# Altium integrated library Cypress USB High-Speed.IntLib: 35 symbols (part 2 of 2)
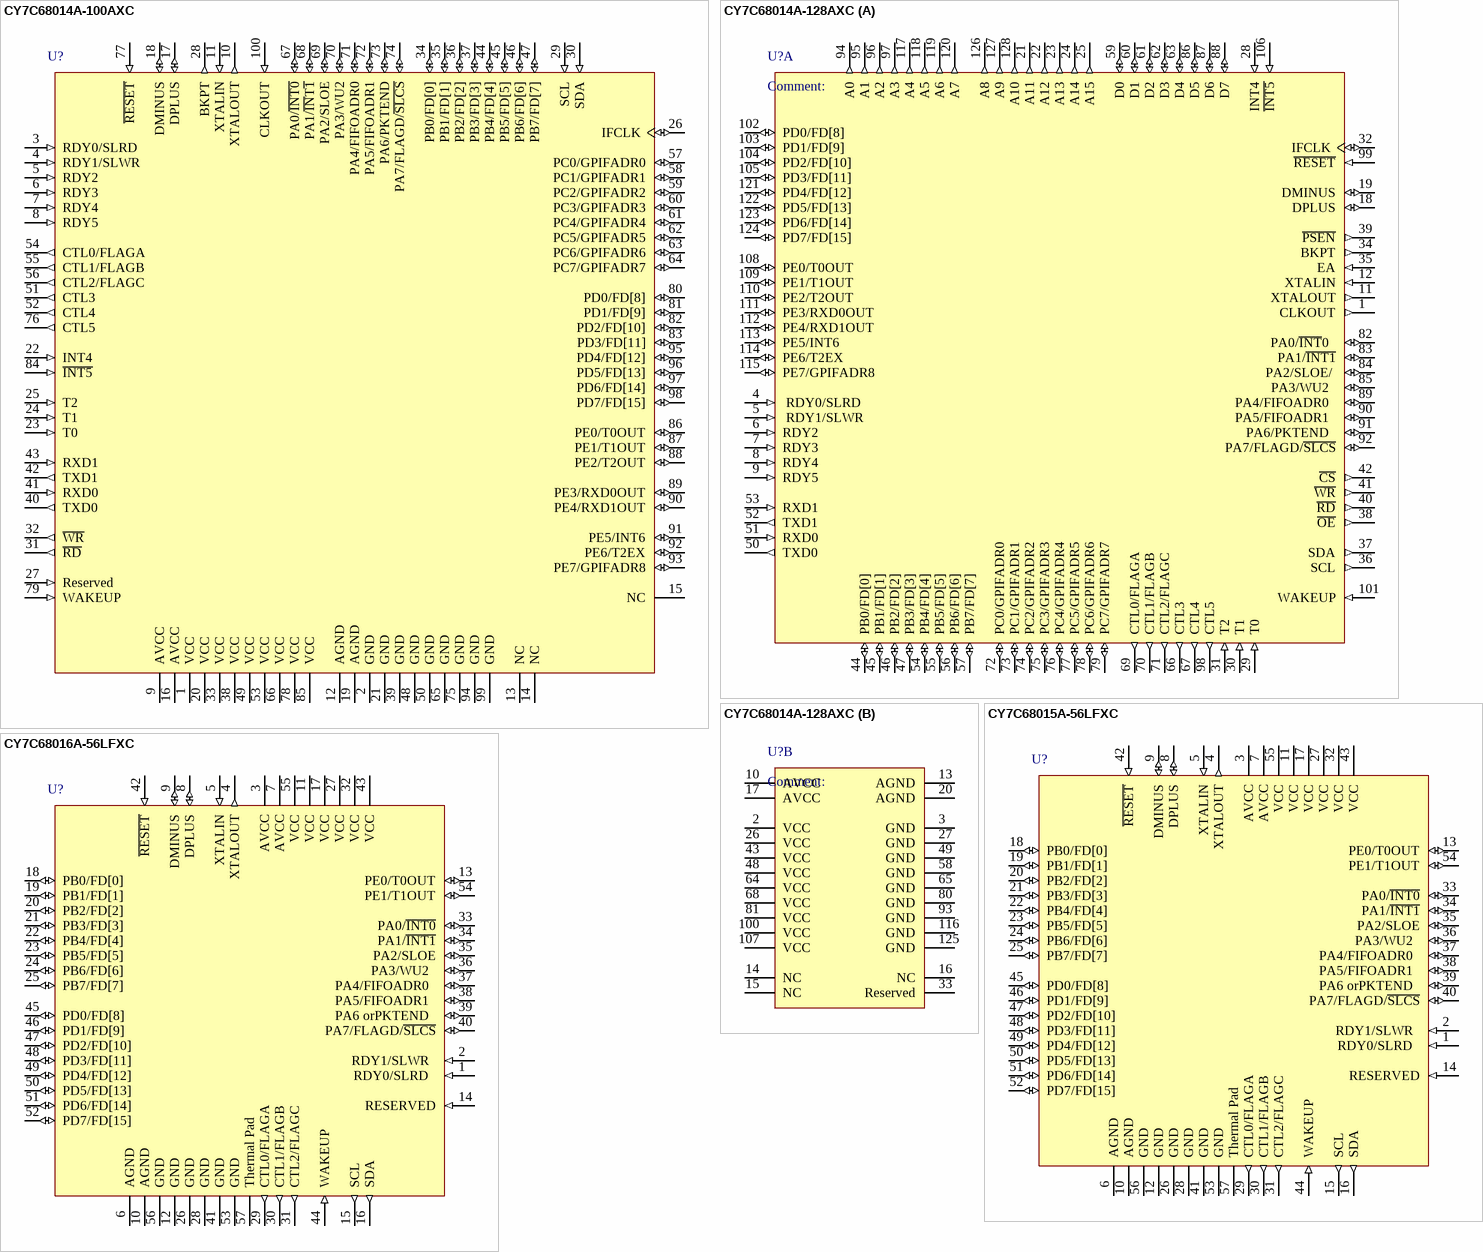
[diagram p7: symbols CY7C68014A-100AXC to CY7C68016A-56LFXC]

## CY7C68014A-128AXC
designator U?
EZ-USB FX2LP USB Microcontroller Ideal for Battery Powered Applications,16K RAM, 40 I/Os, 128-Pin TQFP, Pb-Free, Commercial Grade; Published: 16-Dec-2005; LatestRevisionDate: 13-Apr-2006; LatestRevisionNote: IPC-7351 Footprint Added.; DatasheetVersion: rev.J, Sep-2005; PackageVersion: Rev. *C, 19-Dec-2002; PackageReference: A128; Publisher: Altium Limited; PackageDescription: 128-Pin Thin Quad Flat Pack Rectangular 0.5 mm Pitch; ComponentLink1Description: Manufacturer Link; ComponentLink1URL: http://www.cypress.com/portal/server.pt; ComponentLink2Description: Datasheet; ComponentLink2URL: http://www.cypress.com/portal/server.pt/gateway/PTARGS_0_2_1524_209_259_43/http%3B/sjapp20.mis.cypress.com%3B7001/publishedcontent/publish/design_resources/datasheets/contents/cy7c68014a_5.pdf
footprint A128_N (Thin QFP, 128-Leads, Body 20x14 mm, Pitch 0.5mm, IPC Medium Density)
footprint A128_L (Thin QFP, 128-Leads, Body 20x14 mm, Pitch 0.5mm, IPC High Density)
footprint A128_M (Thin QFP, 128-Leads, Body 20x14 mm, Pitch 0.5mm, IPC Low Density)
part A pins: 1 CLKOUT (out), 4  RDY0/SLRD   (in), 5  RDY1/SLWR   (in), 6 RDY2 (in), 7 RDY3 (in), 8 RDY4 (in), 9 RDY5 (in), 11 XTALOUT (out), 12 XTALIN (in), 18 DPLUS (io), 19 DMINUS (io), 21 A11 (out), 22 A12 (out), 23 A13 (out), 24 A14 (out), 25 A15 (out), 28 INT4 (in), 29 T0 (in), 30 T1 (in), 31 T2 (in), 32  IFCLK (io), 34 BKPT (out), 35 EA (in), 36 SCL (out), 37 SDA (out), 38 ~{OE} (out), 39 ~{PSEN} (out), 40 ~{RD} (out), 41 ~{WR} (out), 42 ~{CS} (out), 44 PB0/FD[0]   (io), 45 PB1/FD[1]   (io), 46 PB2/FD[2]   (io), 47 PB3/FD[3]   (io), 50 TXD0 (out), 51 RXD0 (in), 52 TXD1 (out), 53 RXD1 (in), 54 PB4/FD[4]   (io), 55 PB5/FD[5]   (io), 56 PB6/FD[6]   (io), 57 PB7/FD[7]   (io), 59 D0 (io), 60 D1 (io), 61 D2 (io), 62 D3 (io), 63 D4 (io), 66 CTL3 (out), 67 CTL4 (out), 69 CTL0/FLAGA   (out), 70 CTL1/FLAGB   (out), 71 CTL2/FLAGC   (out), 72 PC0/GPIFADR0   (io), 73 PC1/GPIFADR1   (io), 74 PC2/GPIFADR2   (io), 75 PC3/GPIFADR3   (io), 76 PC4/GPIFADR4   (io), 77 PC5/GPIFADR5   (io), 78 PC6/GPIFADR6   (io), 79 PC7/GPIFADR7   (io), 82 PA0/~{INT}0   (io), 83 PA1/~{INT1} (io), 84 PA2/SLOE/  (io), 85 PA3/WU2   (io), 86 D5 (io), 87 D6 (io), 88 D7 (io), 89 PA4/FIFOADR0   (io), 90 PA5/FIFOADR1   (io), 91 PA6/PKTEND   (io), 92 PA7/FLAGD/~{SLCS} (io), 94 A0 (out), 95 A1 (out), 96 A2 (out), 97 A3 (out), 98 CTL5 (out), 99 ~{RESET} (in), 101 WAKEUP (in), 102 PD0/FD[8]   (io), 103 PD1/FD[9]   (io), 104 PD2/FD[10]   (io), 105 PD3/FD[11]   (io), 106 ~{INT5} (in), 108 PE0/T0OUT   (io), 109 PE1/T1OUT   (io), 110 PE2/T2OUT   (io), 111 PE3/RXD0OUT   (io), 112 PE4/RXD1OUT   (io), 113 PE5/INT6   (io), 114 PE6/T2EX   (io), 115 PE7/GPIFADR8   (io), 117 A4 (out), 118 A5 (out), 119 A6 (out), 120 A7 (out), 121 PD4/FD[12]   (io), 122 PD5/FD[13]   (io), 123 PD6/FD[14]   (io), 124 PD7/FD[15]   (io), 126 A8 (out), 127 A9 (out), 128 A10 (out)
part B pins: 2 VCC (power), 3 GND (power), 10 AVCC (power), 13 AGND (power), 14 NC, 15 NC, 16 NC, 17 AVCC (power), 20 AGND (power), 26 VCC (power), 27 GND (power), 33 Reserved (power), 43 VCC (power), 48 VCC (power), 49 GND (power), 58 GND (power), 64 VCC (power), 65 GND (power), 68 VCC (power), 80 GND (power), 81 VCC (power), 93 GND (power), 100 VCC (power), 107 VCC (power), 116 GND (power), 125 GND (power)

## CY7C68015A-56LFXC
designator U?
EZ-USB FX2LP USB Microcontroller Ideal for Non-Battery Powered Applications,16K RAM, 26 I/Os, 56-Pin QFN, Pb-Free, Commercial Grade; Published: 16-Dec-2005; LatestRevisionDate: 13-Apr-2006; LatestRevisionNote: IPC-7351 Footprint Added.; DatasheetVersion: rev.J, Sep-2005; PackageVersion: May-2003; PackageReference: LF56A; Publisher: Altium Limited; PackageDescription: 56-Pin Punch Version Quad Flat No-Lead 0.5 mm Pitch; Code_JEDEC: MO-220; ComponentLink1Description: Manufacturer Link; ComponentLink1URL: http://www.cypress.com/portal/server.pt; ComponentLink2Description: Datasheet; ComponentLink2URL: http://www.cypress.com/portal/server.pt/gateway/PTARGS_0_2_1524_209_259_43/http%3B/sjapp20.mis.cypress.com%3B7001/publishedcontent/publish/design_resources/datasheets/contents/cy7c68015a_5.pdf
footprint LF56A_N (QFN, 56-Leads, Body 8x8mm, Pitch 0.5mm, IPC Medium Density)
footprint LF56A_L (QFN, 56-Leads, Body 8x8mm, Pitch 0.5mm, IPC High Density)
footprint LF56A_M (QFN, 56-Leads, Body 8x8mm, Pitch 0.5mm, IPC Low Density)
pins: 1  RDY0/SLRD   (in), 2  RDY1/SLWR   (in), 3 AVCC (power), 4 XTALOUT (out), 5 XTALIN (in), 6 AGND (power), 7 AVCC (power), 8 DPLUS (io), 9 DMINUS (io), 10 AGND (power), 11 VCC (power), 12 GND (power), 13 PE0/T0OUT (io), 14 RESERVED (in), 15 SCL (out), 16 SDA (out), 17 VCC (power), 18 PB0/FD[0]   (io) "Port B", 19 PB1/FD[1]   (io) "Port B", 20 PB2/FD[2]   (io) "Port B", 21 PB3/FD[3]   (io) "Port B", 22 PB4/FD[4]   (io) "Port B", 23 PB5/FD[5]   (io) "Port B", 24 PB6/FD[6]   (io) "Port B", 25 PB7/FD[7]   (io) "Port B", 26 GND (power), 27 VCC (power), 28 GND (power), 29 CTL0/FLAGA   (out), 30 CTL1/FLAGB   (out), 31 CTL2/FLAGC   (out), 32 VCC (power), 33 PA0/~{INT0} (io) "Port A", 34 PA1/~{INT1} (io) "Port A", 35 PA2/SLOE (io) "Port A", 36 PA3/WU2   (io) "Port A", 37 PA4/FIFOADR0   (io) "Port A", 38 PA5/FIFOADR1   (io) "Port A", 39 PA6 orPKTEND   (io) "Port A", 40 PA7/FLAGD/~{SLCS} (io) "Port A", 41 GND (power), 42 ~{RESET} (in), 43 VCC (power), 44 WAKEUP (in), 45 PD0/FD[8]   (io) "Port D", 46 PD1/FD[9]   (io) "Port D", 47 PD2/FD[10]   (io) "Port D", 48 PD3/FD[11]   (io) "Port D", 49 PD4/FD[12]   (io) "Port D", 50 PD5/FD[13]   (io) "Port D", 51 PD6/FD[14]   (io) "Port D", 52 PD7/FD[15]   (io) "Port D", 53 GND (power), 54 PE1/T1OUT (io), 55 VCC (power), 56 GND (power), 57 Thermal Pad (power)

## CY7C68016A-56LFXC
designator U?
EZ-USB FX2LP USB Microcontroller Ideal for Battery Powered Applications,16K RAM, 26 I/Os, 56-Pin QFN, Pb-Free, Commercial Grade; Published: 16-Dec-2005; LatestRevisionDate: 13-Apr-2006; LatestRevisionNote: IPC-7351 Footprint Added.; DatasheetVersion: rev.J, Sep-2005; PackageVersion: May-2003; PackageReference: LF56A; Publisher: Altium Limited; PackageDescription: 56-Pin Punch Version Quad Flat No-Lead 0.5 mm Pitch; Code_JEDEC: MO-220; ComponentLink1Description: Manufacturer Link; ComponentLink1URL: http://www.cypress.com/portal/server.pt; ComponentLink2Description: Datasheet; ComponentLink2URL: http://www.cypress.com/portal/server.pt/gateway/PTARGS_0_2_1524_209_259_43/http%3B/sjapp20.mis.cypress.com%3B7001/publishedcontent/publish/design_resources/datasheets/contents/cy7c68016a_5.pdf
footprint LF56A_N (QFN, 56-Leads, Body 8x8mm, Pitch 0.5mm, IPC Medium Density)
footprint LF56A_L (QFN, 56-Leads, Body 8x8mm, Pitch 0.5mm, IPC High Density)
footprint LF56A_M (QFN, 56-Leads, Body 8x8mm, Pitch 0.5mm, IPC Low Density)
pins: 1  RDY0/SLRD   (in), 2  RDY1/SLWR   (in), 3 AVCC (power), 4 XTALOUT (out), 5 XTALIN (in), 6 AGND (power), 7 AVCC (power), 8 DPLUS (io), 9 DMINUS (io), 10 AGND (power), 11 VCC (power), 12 GND (power), 13 PE0/T0OUT (io), 14 RESERVED (in), 15 SCL (out), 16 SDA (out), 17 VCC (power), 18 PB0/FD[0]   (io) "Port B", 19 PB1/FD[1]   (io) "Port B", 20 PB2/FD[2]   (io) "Port B", 21 PB3/FD[3]   (io) "Port B", 22 PB4/FD[4]   (io) "Port B", 23 PB5/FD[5]   (io) "Port B", 24 PB6/FD[6]   (io) "Port B", 25 PB7/FD[7]   (io) "Port B", 26 GND (power), 27 VCC (power), 28 GND (power), 29 CTL0/FLAGA   (out), 30 CTL1/FLAGB   (out), 31 CTL2/FLAGC   (out), 32 VCC (power), 33 PA0/~{INT0} (io) "Port A", 34 PA1/~{INT1} (io) "Port A", 35 PA2/SLOE (io) "Port A", 36 PA3/WU2   (io) "Port A", 37 PA4/FIFOADR0   (io) "Port A", 38 PA5/FIFOADR1   (io) "Port A", 39 PA6 orPKTEND   (io) "Port A", 40 PA7/FLAGD/~{SLCS} (io) "Port A", 41 GND (power), 42 ~{RESET} (in), 43 VCC (power), 44 WAKEUP (in), 45 PD0/FD[8]   (io) "Port D", 46 PD1/FD[9]   (io) "Port D", 47 PD2/FD[10]   (io) "Port D", 48 PD3/FD[11]   (io) "Port D", 49 PD4/FD[12]   (io) "Port D", 50 PD5/FD[13]   (io) "Port D", 51 PD6/FD[14]   (io) "Port D", 52 PD7/FD[15]   (io) "Port D", 53 GND (power), 54 PE1/T1OUT (io), 55 VCC (power), 56 GND (power), 57 Thermal Pad (power)

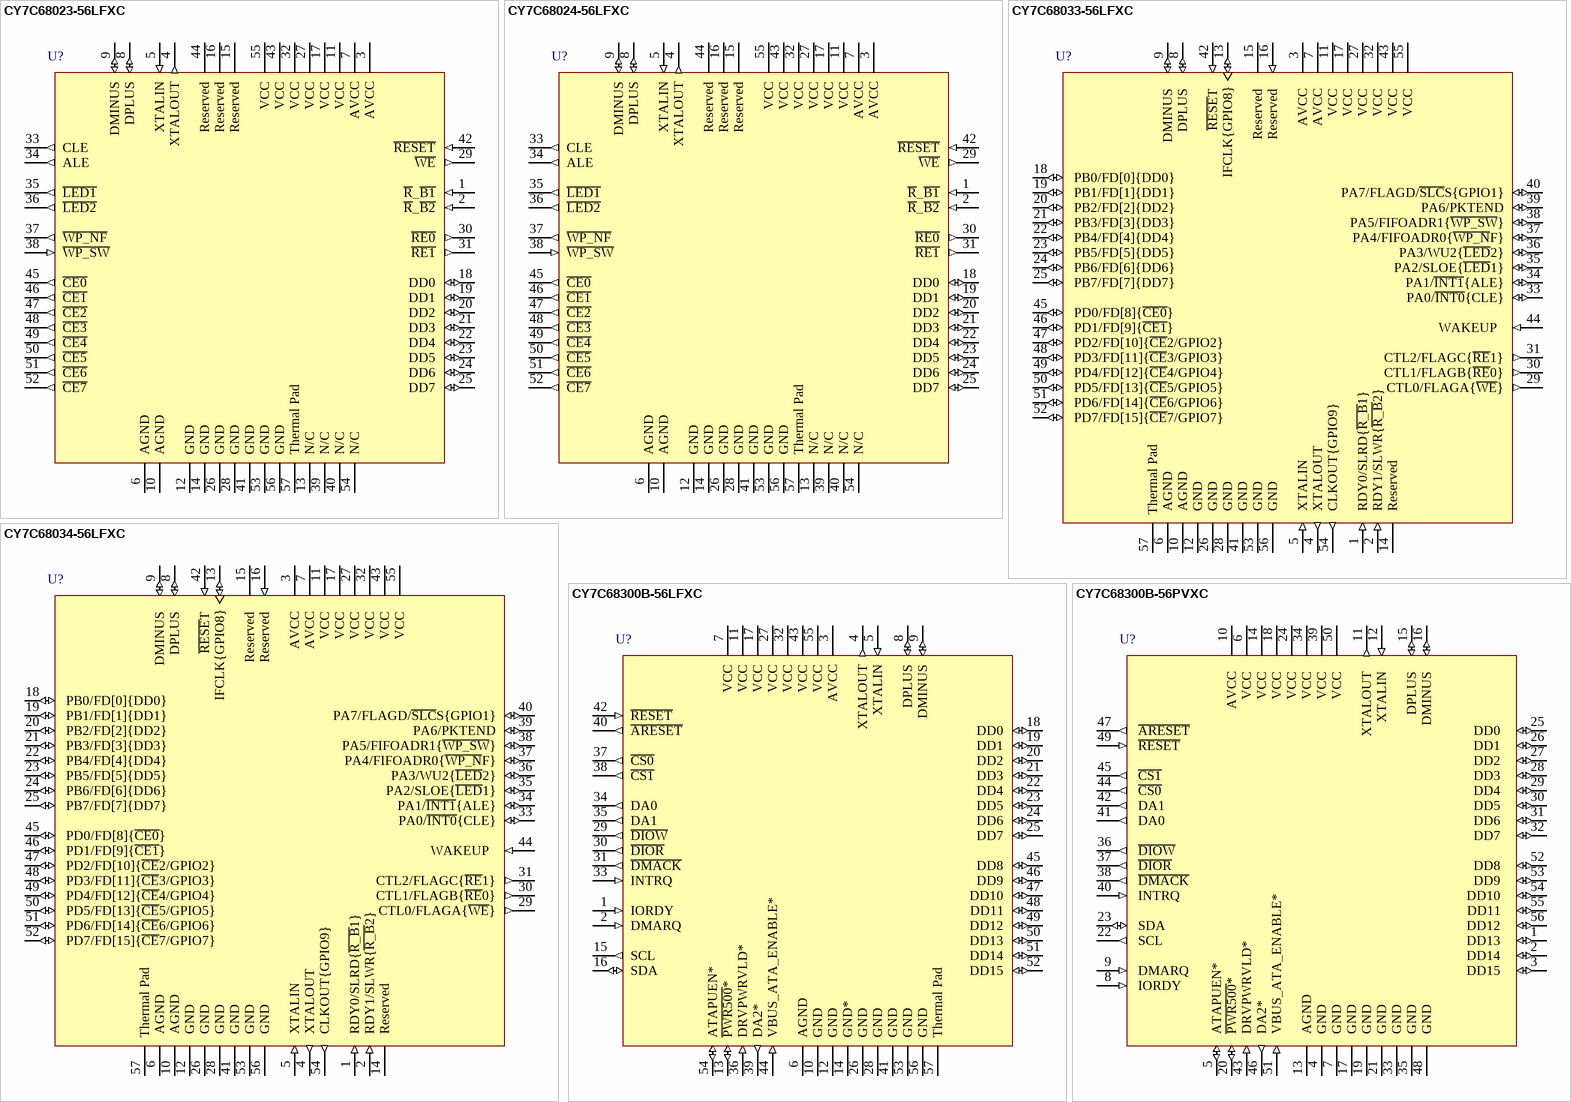
[diagram p4: symbols CY7C68023-56LFXC to CY7C68300B-56PVXC]

## CY7C68023-56LFXC
designator U?
EZ-USB NX2LP USB 2.0 NAND Flash Controller for Self/ Bus Power, 56 - pin QFN, Pb-Free; Published: 16-Dec-2005; LatestRevisionDate: 13-Apr-2006; LatestRevisionNote: IPC-7351 Footprint Added.; DatasheetVersion: rev.B, Oct-2005; PackageVersion: May-2003; PackageReference: LF56A; Publisher: Altium Limited; PackageDescription: 56-Pin Punch Version Quad Flat No-Lead 0.5 mm Pitch; Code_JEDEC: MO-220; ComponentLink1Description: Manufacturer Link; ComponentLink1URL: http://www.cypress.com/portal/server.pt; ComponentLink2Description: Datasheet; ComponentLink2URL: http://www.cypress.com/portal/server.pt/gateway/PTARGS_0_2_1524_209_259_43/http%3B/sjapp20.mis.cypress.com%3B7001/publishedcontent/publish/design_resources/datasheets/contents/cy7c68023_5.pdf
footprint LF56A_N (QFN, 56-Leads, Body 8x8mm, Pitch 0.5mm, IPC Medium Density)
footprint LF56A_L (QFN, 56-Leads, Body 8x8mm, Pitch 0.5mm, IPC High Density)
footprint LF56A_M (QFN, 56-Leads, Body 8x8mm, Pitch 0.5mm, IPC Low Density)
pins: 1 ~{R}_~{B1} (in), 2 ~{R}_~{B2} (in), 3 AVCC (power), 4 XTALOUT (out), 5 XTALIN (in), 6 AGND (power), 7 AVCC (power), 8 DPLUS (io), 9 DMINUS (io), 10 AGND (power), 11 VCC (power), 12 GND (power), 13 N/C, 14 GND (power), 15 Reserved (power), 16 Reserved (power), 17 VCC (power), 18 DD0 (io), 19 DD1 (io), 20 DD2 (io), 21 DD3 (io), 22 DD4 (io), 23 DD5 (io), 24 DD6 (io), 25 DD7 (io), 26 GND (power), 27 VCC (power), 28 GND (power), 29 ~{WE} (out), 30 ~{RE0} (out), 31 ~{RE1} (out), 32 VCC (power), 33 CLE (out), 34 ALE (out), 35 ~{LED1} (out), 36 ~{LED2} (out), 37 ~{WP_NF} (out), 38 ~{WP_SW} (in), 39 N/C, 40 N/C, 41 GND (power), 42 ~{RESET} (in), 43 VCC (power), 44 Reserved (power), 45 ~{CE0} (out), 46 ~{CE1} (out), 47 ~{CE2} (out), 48 ~{CE3} (out), 49 ~{CE4} (out), 50 ~{CE5} (out), 51 ~{CE6} (out), 52 ~{CE7} (out), 53 GND (power), 54 N/C, 55 VCC (power), 56 GND (power), 57 Thermal Pad (power)

## CY7C68024-56LFXC
designator U?
EZ-USB NX2LP USB 2.0 NAND Flash Controller for Battery Power, 56 - pin QFN, Pb-Free; Published: 16-Dec-2005; LatestRevisionDate: 13-Apr-2006; LatestRevisionNote: IPC-7351 Footprint Added.; DatasheetVersion: rev.B, Oct-2005; PackageVersion: May-2003; PackageReference: LF56A; Publisher: Altium Limited; PackageDescription: 56-Pin Punch Version Quad Flat No-Lead 0.5 mm Pitch; Code_JEDEC: MO-220; ComponentLink1Description: Manufacturer Link; ComponentLink1URL: http://www.cypress.com/portal/server.pt; ComponentLink2Description: Datasheet; ComponentLink2URL: http://www.cypress.com/portal/server.pt/gateway/PTARGS_0_2_1524_209_259_43/http%3B/sjapp20.mis.cypress.com%3B7001/publishedcontent/publish/design_resources/datasheets/contents/cy7c68024_5.pdf
footprint LF56A_N (QFN, 56-Leads, Body 8x8mm, Pitch 0.5mm, IPC Medium Density)
footprint LF56A_L (QFN, 56-Leads, Body 8x8mm, Pitch 0.5mm, IPC High Density)
footprint LF56A_M (QFN, 56-Leads, Body 8x8mm, Pitch 0.5mm, IPC Low Density)
pins: 1 ~{R}_~{B1} (in), 2 ~{R}_~{B2} (in), 3 AVCC (power), 4 XTALOUT (out), 5 XTALIN (in), 6 AGND (power), 7 AVCC (power), 8 DPLUS (io), 9 DMINUS (io), 10 AGND (power), 11 VCC (power), 12 GND (power), 13 N/C, 14 GND (power), 15 Reserved (power), 16 Reserved (power), 17 VCC (power), 18 DD0 (io), 19 DD1 (io), 20 DD2 (io), 21 DD3 (io), 22 DD4 (io), 23 DD5 (io), 24 DD6 (io), 25 DD7 (io), 26 GND (power), 27 VCC (power), 28 GND (power), 29 ~{WE} (out), 30 ~{RE0} (out), 31 ~{RE1} (out), 32 VCC (power), 33 CLE (out), 34 ALE (out), 35 ~{LED1} (out), 36 ~{LED2} (out), 37 ~{WP_NF} (out), 38 ~{WP_SW} (in), 39 N/C, 40 N/C, 41 GND (power), 42 ~{RESET} (in), 43 VCC (power), 44 Reserved (power), 45 ~{CE0} (out), 46 ~{CE1} (out), 47 ~{CE2} (out), 48 ~{CE3} (out), 49 ~{CE4} (out), 50 ~{CE5} (out), 51 ~{CE6} (out), 52 ~{CE7} (out), 53 GND (power), 54 N/C, 55 VCC (power), 56 GND (power), 57 Thermal Pad (power)

## CY7C68033-56LFXC
designator U?
EZ-USB NX2LP-Flex USB NAND Flash Controller with enhanced 8051 Core for Non-Battery Powered Applications, 15KB RAM, 56-Pin QFN, Pb-Free; Note: Pins Names within Curly Brackets are for NAND Firmware Usage; Published: 16-Dec-2005; LatestRevisionDate: 13-Apr-2006; LatestRevisionNote: IPC-7351 Footprint Added.; DatasheetVersion: rev.B, Oct-2005; PackageVersion: May-2003; PackageReference: LF56A; Publisher: Altium Limited; PackageDescription: 56-Pin Punch Version Quad Flat No-Lead 0.5 mm Pitch; Code_JEDEC: MO-220; ComponentLink1Description: Manufacturer Link; ComponentLink1URL: http://www.cypress.com/portal/server.pt; ComponentLink2Description: Datasheet; ComponentLink2URL: http://www.cypress.com/portal/server.pt/gateway/PTARGS_0_2_1524_209_259_43/http%3B/sjapp20.mis.cypress.com%3B7001/publishedcontent/publish/design_resources/datasheets/contents/cy7c68033_5.pdf
footprint LF56A_N (QFN, 56-Leads, Body 8x8mm, Pitch 0.5mm, IPC Medium Density)
footprint LF56A_L (QFN, 56-Leads, Body 8x8mm, Pitch 0.5mm, IPC High Density)
footprint LF56A_M (QFN, 56-Leads, Body 8x8mm, Pitch 0.5mm, IPC Low Density)
pins: 1  RDY0/SLRD{~{R_B}1} (in), 2  RDY1/SLWR{~{R_B}2} (in), 3  AVCC   (power), 4  XTALOUT   (out), 5  XTALIN   (in), 6  AGND   (power), 7  AVCC   (power), 8  DPLUS   (io), 9  DMINUS   (io), 10  AGND   (power), 11  VCC   (power), 12  GND   (power), 13  IFCLK{GPIO8} (io), 14  Reserved (power), 15  Reserved   (power), 16  Reserved   (in), 17  VCC   (power), 18  PB0/FD[0]{DD0} (io) "Port B", 19  PB1/FD[1]{DD1} (io) "Port B", 20  PB2/FD[2]{DD2} (io) "Port B", 21  PB3/FD[3]{DD3} (io) "Port B", 22  PB4/FD[4]{DD4} (io) "Port B", 23  PB5/FD[5]{DD5} (io) "Port B", 24  PB6/FD[6]{DD6} (io) "Port B", 25  PB7/FD[7]{DD7} (io) "Port B", 26  GND   (power), 27  VCC   (power), 28  GND   (power), 29  CTL0/FLAGA{~{WE}} (out), 30  CTL1/FLAGB{~{RE}0} (out), 31  CTL2/FLAGC{~{RE}1} (out), 32  VCC   (power), 33  PA0/~{INT0}{CLE} (io) "Port A", 34  PA1/~{INT1}{ALE} (io) "Port A", 35  PA2/SLOE{~{LED}1} (io) "Port A", 36  PA3/WU2{~{LED}2} (io) "Port A", 37  PA4/FIFOADR0{~{WP_N}F} (io) "Port A", 38  PA5/FIFOADR1{~{WP_SW}} (io) "Port A", 39  PA6/PKTEND (io) "Port A", 40  PA7/FLAGD/~{SLC}S{GPIO1} (io) "Port A", 41  GND   (power), 42  ~{RESE}T   (in), 43  VCC   (power), 44  WAKEUP   (in) "Port A", 45  PD0/FD[8]{~{CE0}} (io) "Port D", 46  PD1/FD[9]{~{CE1}} (io) "Port D", 47  PD2/FD[10]{~{CE}2/GPIO2} (io) "Port D", 48  PD3/FD[11]{~{CE}3/GPIO3} (io) "Port D", 49  PD4/FD[12]{~{CE}4/GPIO4} (io) "Port D", 50  PD5/FD[13]{~{CE}5/GPIO5} (io) "Port D", 51  PD6/FD[14]{~{CE}6/GPIO6} (io) "Port D", 52  PD7/FD[15]{~{CE}7/GPIO7} (io) "Port D", 53  GND   (power), 54  CLKOUT{GPIO9} (out), 55  VCC   (power), 56  GND   (power), 57 Thermal Pad (power)

## CY7C68034-56LFXC
designator U?
EZ-USB NX2LP-Flex USB NAND Flash Controller with enhanced 8051 Core for Battery Powered Applications, 15KB RAM, 56-Pin QFN, Pb-Free; Note: Pins Names within Curly Brackets are for NAND Firmware Usage; Published: 16-Dec-2005; LatestRevisionDate: 13-Apr-2006; LatestRevisionNote: IPC-7351 Footprint Added.; DatasheetVersion: rev.B, Oct-2005; PackageVersion: May-2003; PackageReference: LF56A; Publisher: Altium Limited; PackageDescription: 56-Pin Punch Version Quad Flat No-Lead 0.5 mm Pitch; Code_JEDEC: MO-220; ComponentLink1Description: Manufacturer Link; ComponentLink1URL: http://www.cypress.com/portal/server.pt; ComponentLink2Description: Datasheet; ComponentLink2URL: http://www.cypress.com/portal/server.pt/gateway/PTARGS_0_2_1524_209_259_43/http%3B/sjapp20.mis.cypress.com%3B7001/publishedcontent/publish/design_resources/datasheets/contents/cy7c68034_5.pdf
footprint LF56A_N (QFN, 56-Leads, Body 8x8mm, Pitch 0.5mm, IPC Medium Density)
footprint LF56A_L (QFN, 56-Leads, Body 8x8mm, Pitch 0.5mm, IPC High Density)
footprint LF56A_M (QFN, 56-Leads, Body 8x8mm, Pitch 0.5mm, IPC Low Density)
pins: 1  RDY0/SLRD{~{R_B}1} (in), 2  RDY1/SLWR{~{R_B}2} (in), 3  AVCC   (power), 4  XTALOUT   (out), 5  XTALIN   (in), 6  AGND   (power), 7  AVCC   (power), 8  DPLUS   (io), 9  DMINUS   (io), 10  AGND   (power), 11  VCC   (power), 12  GND   (power), 13  IFCLK{GPIO8} (io), 14  Reserved (power), 15  Reserved   (power), 16  Reserved   (in), 17  VCC   (power), 18  PB0/FD[0]{DD0} (io) "Port B", 19  PB1/FD[1]{DD1} (io) "Port B", 20  PB2/FD[2]{DD2} (io) "Port B", 21  PB3/FD[3]{DD3} (io) "Port B", 22  PB4/FD[4]{DD4} (io) "Port B", 23  PB5/FD[5]{DD5} (io) "Port B", 24  PB6/FD[6]{DD6} (io) "Port B", 25  PB7/FD[7]{DD7} (io) "Port B", 26  GND   (power), 27  VCC   (power), 28  GND   (power), 29  CTL0/FLAGA{~{WE}} (out), 30  CTL1/FLAGB{~{RE}0} (out), 31  CTL2/FLAGC{~{RE}1} (out), 32  VCC   (power), 33  PA0/~{INT0}{CLE} (io) "Port A", 34  PA1/~{INT1}{ALE} (io) "Port A", 35  PA2/SLOE{~{LED}1} (io) "Port A", 36  PA3/WU2{~{LED}2} (io) "Port A", 37  PA4/FIFOADR0{~{WP_N}F} (io) "Port A", 38  PA5/FIFOADR1{~{WP_SW}} (io) "Port A", 39  PA6/PKTEND (io) "Port A", 40  PA7/FLAGD/~{SLC}S{GPIO1} (io) "Port A", 41  GND   (power), 42  ~{RESE}T   (in), 43  VCC   (power), 44  WAKEUP   (in) "Port A", 45  PD0/FD[8]{~{CE0}} (io) "Port D", 46  PD1/FD[9]{~{CE1}} (io) "Port D", 47  PD2/FD[10]{~{CE}2/GPIO2} (io) "Port D", 48  PD3/FD[11]{~{CE}3/GPIO3} (io) "Port D", 49  PD4/FD[12]{~{CE}4/GPIO4} (io) "Port D", 50  PD5/FD[13]{~{CE}5/GPIO5} (io) "Port D", 51  PD6/FD[14]{~{CE}6/GPIO6} (io) "Port D", 52  PD7/FD[15]{~{CE}7/GPIO7} (io) "Port D", 53  GND   (power), 54  CLKOUT{GPIO9} (out), 55  VCC   (power), 56  GND   (power), 57 Thermal Pad (power)

## CY7C68300B-56LFXC
designator U?
EZ-USB AT2LP USB2.0 to ATA/ATAPI Bridge for Self/Bus Powered Designs, 56-Pin QFN, Pb-Free; Note: Pin names with Asterisk denote Pin Functionality during CY7C68300A Compatibility mode; Published: 16-Dec-2005; LatestRevisionDate: 13-Apr-2006; LatestRevisionNote: IPC-7351 Footprint Added.; DatasheetVersion: rev.D, Feb-2005; PackageVersion: May-2003; PackageReference: LF56A; Publisher: Altium Limited; PackageDescription: 56-Pin Punch Version Quad Flat No-Lead 0.5 mm Pitch; Code_JEDEC: MO-220; ComponentLink1Description: Manufacturer Link; ComponentLink1URL: http://www.cypress.com/portal/server.pt; ComponentLink2Description: Datasheet; ComponentLink2URL: http://www.cypress.com/portal/server.pt/gateway/PTARGS_0_2_1524_209_259_43/http%3B/sjapp20.mis.cypress.com%3B7001/publishedcontent/publish/design_resources/datasheets/contents/cy7c68300b_5.pdf
footprint LF56A_N (QFN, 56-Leads, Body 8x8mm, Pitch 0.5mm, IPC Medium Density)
footprint LF56A_L (QFN, 56-Leads, Body 8x8mm, Pitch 0.5mm, IPC High Density)
footprint LF56A_M (QFN, 56-Leads, Body 8x8mm, Pitch 0.5mm, IPC Low Density)
pins: 1 IORDY (in), 2 DMARQ (in), 3 AVCC (power), 4 XTALOUT (out), 5 XTALIN (in), 6 AGND (power), 7 VCC (power), 8 DPLUS (io), 9 DMINUS (io), 10 GND (power), 11 VCC (power), 12 GND (power), 13 ~{PWR500}* (io) "(PU 10K)", 14 GND* (power) "(RESERVED)", 15 SCL (out), 16 SDA (io), 17 VCC (power), 18 DD0 (io), 19 DD1 (io), 20 DD2 (io), 21 DD3 (io), 22 DD4 (io), 23 DD5 (io), 24 DD6 (io), 25 DD7 (io), 26 GND (power), 27 VCC (power), 28 GND (power), 29 ~{DIOW} (out), 30 ~{DIOR} (out), 31 ~{DMACK} (out), 32 VCC (power), 33 INTRQ (in), 34 DA0 (out), 35 DA1 (out), 36 DRVPWRVLD* (in) "(DA2)", 37 ~{CS0} (out), 38 ~{CS1} (out), 39 DA2* (out) "(VBUS_PWR_VALID)", 40 ~{ARESET} (out), 41 GND (power), 42 ~{RESET} (in), 43 VCC (power), 44 VBUS_ATA_ENABLE* (in) "(ATA_EN)", 45 DD8 (io), 46 DD9 (io), 47 DD10 (io), 48 DD11 (io), 49 DD12 (io), 50 DD13 (io), 51 DD14 (io), 52 DD15 (io), 53 GND (power), 54 ATAPUEN* (io) "(NC)", 55 VCC (power), 56 GND (power), 57 Thermal Pad (power)

## CY7C68300B-56PVXC
designator U?
EZ-USB AT2LP USB2.0 to ATA/ATAPI Bridge for Self/ Bus Powered Designs,56-Pin SSOP, Pb-Free; Note: Pin names with Asterisk denote Pin Functionality during CY7C68300A Compatibility mode; Published: 16-Dec-2005; DatasheetVersion: rev.D, Feb-2005; PackageVersion: Feb-2005; PackageReference: O56; Publisher: Altium Limited; PackageDescription: SSOP; 56 Leads; Body Width 7.5 mm; Pitch 0.635 mm; Code_JEDEC: MO-118-AB; Code_IPC: SSO56; ComponentLink1Description: Manufacturer Link; ComponentLink1URL: http://www.cypress.com/portal/server.pt; ComponentLink2Description: Datasheet; ComponentLink2URL: http://www.cypress.com/portal/server.pt/gateway/PTARGS_0_2_1524_209_259_43/http%3B/sjapp20.mis.cypress.com%3B7001/publishedcontent/publish/design_resources/datasheets/contents/cy7c68300b_5.pdf
footprint O56 (SSOP; 56 Leads; Body Width 7.5 mm; Pitch 0.635 mm)
pins: 1  DD13   (io), 2  DD14   (io), 3  DD15   (io), 4  GND   (power), 5  ATAPUEN* (io) "(NC)", 6  VCC   (power), 7  GND   (power), 8  IORDY   (in), 9  DMARQ   (in), 10  AVCC   (power), 11  XTALOUT   (out), 12  XTALIN   (in), 13  AGND   (power), 14  VCC   (power), 15  DPLUS   (io), 16  DMINUS   (io), 17  GND   (power), 18  VCC   (power), 19  GND   (power), 20  ~{PWR500}* (io) "(PU 10K)", 21  GND (power) "(RESERVED)", 22  SCL   (out), 23  SDA   (io), 24  VCC   (power), 25  DD0   (io), 26  DD1   (io), 27  DD2   (io), 28  DD3   (io), 29  DD4   (io), 30  DD5   (io), 31  DD6   (io), 32  DD7   (io), 33  GND   (power), 34  VCC   (power), 35  GND   (power), 36  ~{DIOW} (out), 37  ~{DIOR} (out), 38  ~{DMACK} (out), 39  VCC   (power), 40  INTRQ   (in), 41  DA0   (out), 42  DA1   (out), 43  DRVPWRVLD* (in) "(DA2)", 44  ~{CS0} (out), 45  ~{CS1} (out), 46  DA2* (out) "(VBUS_PWR_VALID)", 47  ~{ARESET} (out), 48  GND   (power), 49  ~{RESET}   (in), 50  VCC   (power), 51  VBUS_ATA_ENABLE* (in) "(ATA_EN)", 52  DD8   (io), 53  DD9   (io), 54  DD10   (io), 55  DD11   (io), 56  DD12   (io)

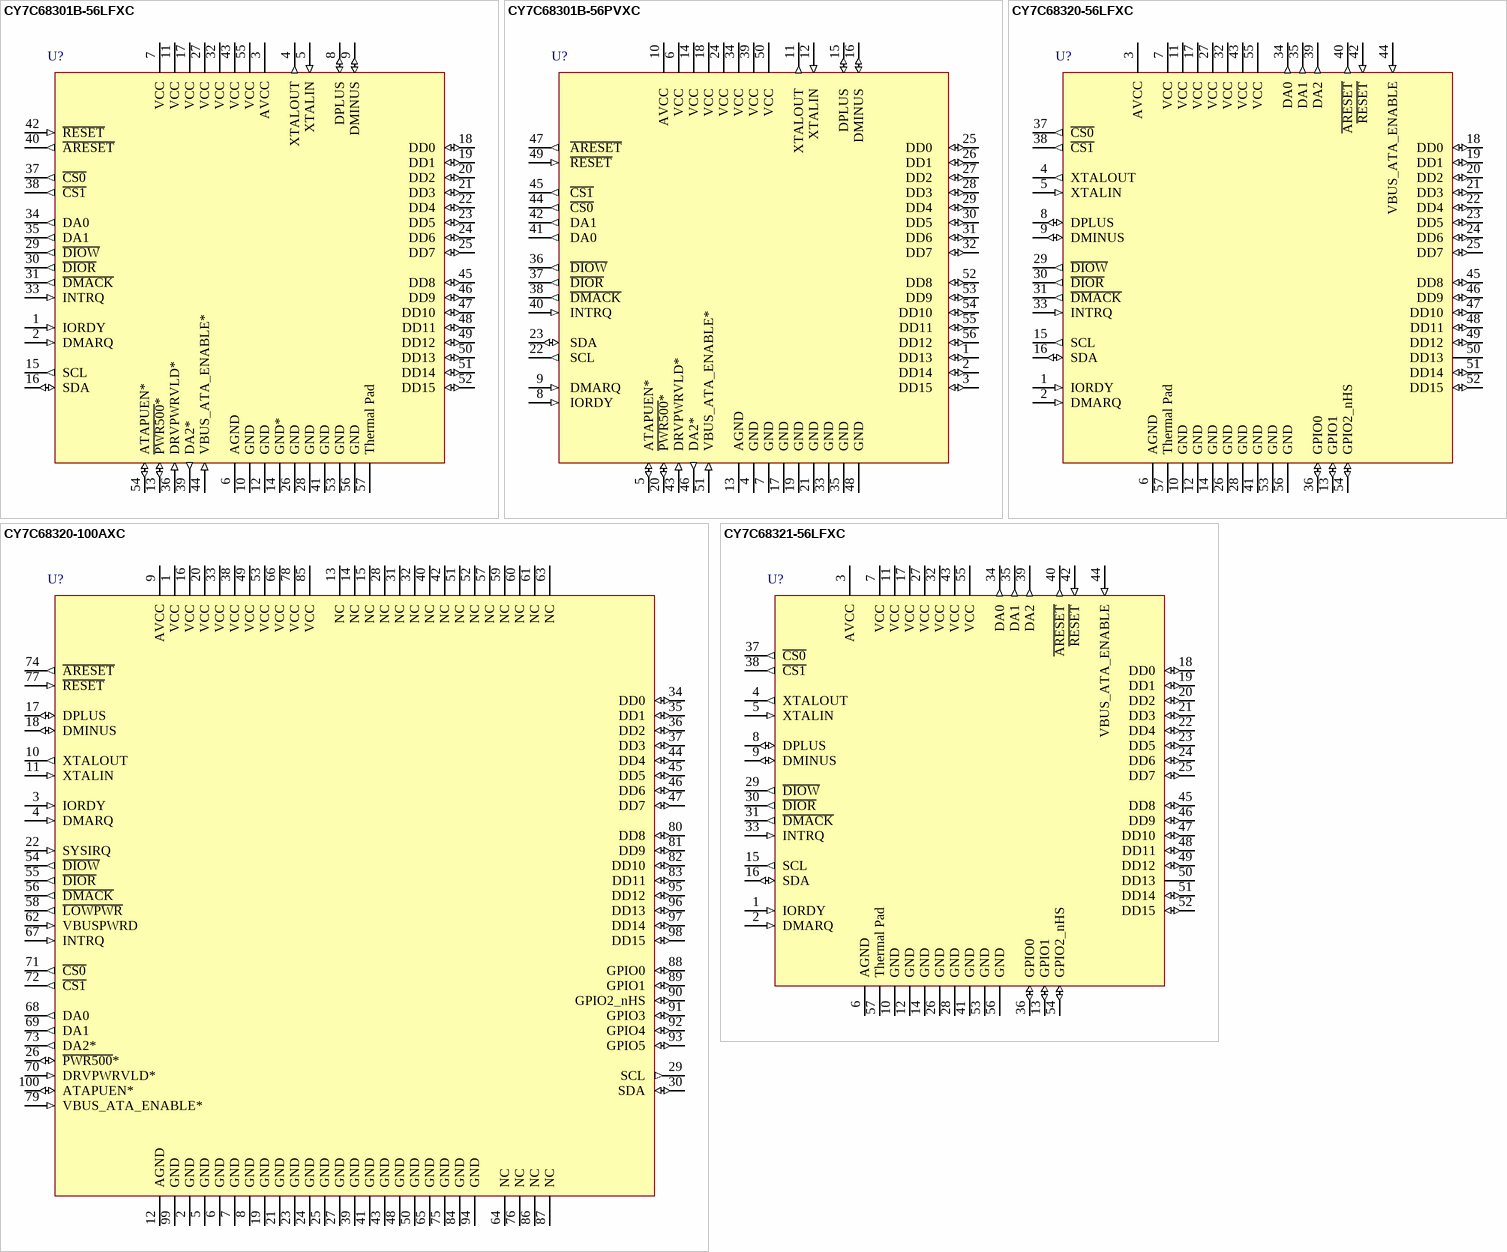
[diagram p5: symbols CY7C68301B-56LFXC to CY7C68321-56LFXC]

## CY7C68301B-56LFXC
designator U?
EZ-USB AT2LP USB2.0 to ATA/ATAPI Bridge for Battery Powered Designs, 56-Pin QFN, Pb-Free; Note: Pin names with Asterisk denote Pin Functionality during CY7C68300A Compatibility mode; Published: 16-Dec-2005; LatestRevisionDate: 13-Apr-2006; LatestRevisionNote: IPC-7351 Footprint Added.; DatasheetVersion: rev.D, Feb-2005; PackageVersion: May-2003; PackageReference: LF56A; Publisher: Altium Limited; PackageDescription: 56-Pin Punch Version Quad Flat No-Lead 0.5 mm Pitch; Code_JEDEC: MO-220; ComponentLink1Description: Manufacturer Link; ComponentLink1URL: http://www.cypress.com/portal/server.pt; ComponentLink2Description: Datasheet; ComponentLink2URL: http://www.cypress.com/portal/server.pt/gateway/PTARGS_0_2_1524_209_259_43/http%3B/sjapp20.mis.cypress.com%3B7001/publishedcontent/publish/design_resources/datasheets/contents/cy7c68301b_5.pdf
footprint LF56A_N (QFN, 56-Leads, Body 8x8mm, Pitch 0.5mm, IPC Medium Density)
footprint LF56A_L (QFN, 56-Leads, Body 8x8mm, Pitch 0.5mm, IPC High Density)
footprint LF56A_M (QFN, 56-Leads, Body 8x8mm, Pitch 0.5mm, IPC Low Density)
pins: 1 IORDY (in), 2 DMARQ (in), 3 AVCC (power), 4 XTALOUT (out), 5 XTALIN (in), 6 AGND (power), 7 VCC (power), 8 DPLUS (io), 9 DMINUS (io), 10 GND (power), 11 VCC (power), 12 GND (power), 13 ~{PWR500}* (io) "(PU 10K)", 14 GND* (power) "(RESERVED)", 15 SCL (out), 16 SDA (io), 17 VCC (power), 18 DD0 (io), 19 DD1 (io), 20 DD2 (io), 21 DD3 (io), 22 DD4 (io), 23 DD5 (io), 24 DD6 (io), 25 DD7 (io), 26 GND (power), 27 VCC (power), 28 GND (power), 29 ~{DIOW} (out), 30 ~{DIOR} (out), 31 ~{DMACK} (out), 32 VCC (power), 33 INTRQ (in), 34 DA0 (out), 35 DA1 (out), 36 DRVPWRVLD* (in) "(DA2)", 37 ~{CS0} (out), 38 ~{CS1} (out), 39 DA2* (out) "(VBUS_PWR_VALID)", 40 ~{ARESET} (out), 41 GND (power), 42 ~{RESET} (in), 43 VCC (power), 44 VBUS_ATA_ENABLE* (in) "(ATA_EN)", 45 DD8 (io), 46 DD9 (io), 47 DD10 (io), 48 DD11 (io), 49 DD12 (io), 50 DD13 (io), 51 DD14 (io), 52 DD15 (io), 53 GND (power), 54 ATAPUEN* (io) "(NC)", 55 VCC (power), 56 GND (power), 57 Thermal Pad (power)

## CY7C68301B-56PVXC
designator U?
EZ-USB AT2LP USB2.0 to ATA/ATAPI Bridge for Battery Powered Designs, 56-Pin SSOP, Pb-Free; Note: Pin names with Asterisk denote Pin Functionality during CY7C68300A Compatibility mode; Published: 16-Dec-2005; DatasheetVersion: rev.D, Feb-2005; PackageVersion: Feb-2005; PackageReference: O56; Publisher: Altium Limited; PackageDescription: SSOP; 56 Leads; Body Width 7.5 mm; Pitch 0.635 mm; Code_JEDEC: MO-118-AB; Code_IPC: SSO56; ComponentLink1Description: Manufacturer Link; ComponentLink1URL: http://www.cypress.com/portal/server.pt; ComponentLink2Description: Datasheet; ComponentLink2URL: http://www.cypress.com/portal/server.pt/gateway/PTARGS_0_2_1524_209_259_43/http%3B/sjapp20.mis.cypress.com%3B7001/publishedcontent/publish/design_resources/datasheets/contents/cy7c68301b_5.pdf
footprint O56 (SSOP; 56 Leads; Body Width 7.5 mm; Pitch 0.635 mm)
pins: 1  DD13   (io), 2  DD14   (io), 3  DD15   (io), 4  GND   (power), 5  ATAPUEN* (io) "(NC)", 6  VCC   (power), 7  GND   (power), 8  IORDY   (in), 9  DMARQ   (in), 10  AVCC   (power), 11  XTALOUT   (out), 12  XTALIN   (in), 13  AGND   (power), 14  VCC   (power), 15  DPLUS   (io), 16  DMINUS   (io), 17  GND   (power), 18  VCC   (power), 19  GND   (power), 20  ~{PWR500}* (io) "(PU 10K)", 21  GND (power) "(RESERVED)", 22  SCL   (out), 23  SDA   (io), 24  VCC   (power), 25  DD0   (io), 26  DD1   (io), 27  DD2   (io), 28  DD3   (io), 29  DD4   (io), 30  DD5   (io), 31  DD6   (io), 32  DD7   (io), 33  GND   (power), 34  VCC   (power), 35  GND   (power), 36  ~{DIOW} (out), 37  ~{DIOR} (out), 38  ~{DMACK} (out), 39  VCC   (power), 40  INTRQ   (in), 41  DA0   (out), 42  DA1   (out), 43  DRVPWRVLD* (in) "(DA2)", 44  ~{CS0} (out), 45  ~{CS1} (out), 46  DA2* (out) "(VBUS_PWR_VALID)", 47  ~{ARESET} (out), 48  GND   (power), 49  ~{RESET}   (in), 50  VCC   (power), 51  VBUS_ATA_ENABLE* (in) "(ATA_EN)", 52  DD8   (io), 53  DD9   (io), 54  DD10   (io), 55  DD11   (io), 56  DD12   (io)

## CY7C68320-56LFXC
designator U?
EZ-USB AT2LP USB2.0 to ATA/ATAPI Bridge for Self/ Bus Powered Designs, 56-Pin QFN, Pb-Free; Published: 16-Dec-2005; LatestRevisionDate: 13-Apr-2006; LatestRevisionNote: IPC-7351 Footprint Added.; DatasheetVersion: rev.D, Feb-2005; PackageVersion: May-2003; PackageReference: LF56A; Publisher: Altium Limited; PackageDescription: 56-Pin Punch Version Quad Flat No-Lead 0.5 mm Pitch; Code_JEDEC: MO-220; ComponentLink1Description: Manufacturer Link; ComponentLink1URL: http://www.cypress.com/portal/server.pt; ComponentLink2Description: Datasheet; ComponentLink2URL: http://www.cypress.com/portal/server.pt/gateway/PTARGS_0_2_1524_209_259_43/http%3B/sjapp20.mis.cypress.com%3B7001/publishedcontent/publish/design_resources/datasheets/contents/cy7c68320_5.pdf
footprint LF56A_N (QFN, 56-Leads, Body 8x8mm, Pitch 0.5mm, IPC Medium Density)
footprint LF56A_L (QFN, 56-Leads, Body 8x8mm, Pitch 0.5mm, IPC High Density)
footprint LF56A_M (QFN, 56-Leads, Body 8x8mm, Pitch 0.5mm, IPC Low Density)
pins: 1 IORDY (in), 2 DMARQ (in), 3 AVCC (power), 4 XTALOUT (out), 5 XTALIN (in), 6 AGND (power), 7 VCC (power), 8 DPLUS (io), 9 DMINUS (io), 10 GND (power), 11 VCC (power), 12 GND (power), 13 GPIO1 (io), 14 GND (power), 15 SCL (out), 16 SDA (io), 17 VCC (power), 18 DD0 (io), 19 DD1 (io), 20 DD2 (io), 21 DD3 (io), 22 DD4 (io), 23 DD5 (io), 24 DD6 (io), 25 DD7 (io), 26 GND (power), 27 VCC (power), 28 GND (power), 29 ~{DIOW} (out), 30 ~{DIOR} (out), 31 ~{DMACK} (out), 32 VCC (power), 33 INTRQ (in), 34 DA0 (out), 35 DA1 (out), 36 GPIO0 (io), 37 ~{CS0} (out), 38 ~{CS1} (out), 39 DA2 (out), 40 ~{ARESET} (out), 41 GND (power), 42 ~{RESET} (in), 43 VCC (power), 44 VBUS_ATA_ENABLE (in), 45 DD8 (io), 46 DD9 (io), 47 DD10 (io), 48 DD11 (io), 49 DD12 (io), 50 DD13 (power), 51 DD14 (io), 52 DD15 (io), 53 GND (power), 54 GPIO2_nHS (io), 55 VCC (power), 56 GND (power), 57 Thermal Pad (power)

## CY7C68320-100AXC
designator U?
EZ-USB AT2LP USB2.0 to ATA/ATAPI Bridge for Self/ Bus Powered Designs, 100-Pin TQFP, Pb-Free; Published: 16-Dec-2005; LatestRevisionDate: 13-Apr-2006; LatestRevisionNote: IPC-7351 Footprint Added.; DatasheetVersion: rev.D, Feb-2005; PackageVersion: Feb-2005; PackageReference: A101; Publisher: Altium Limited; PackageDescription: 100-Pin Thin Plastic Quad Flat Pack Rectangular 0.65 mm Pitch; ComponentLink1Description: Manufacturer Link; ComponentLink1URL: http://www.cypress.com/portal/server.pt; ComponentLink2Description: Datasheet; ComponentLink2URL: http://www.cypress.com/portal/server.pt/gateway/PTARGS_0_2_1524_209_259_43/http%3B/sjapp20.mis.cypress.com%3B7001/publishedcontent/publish/design_resources/datasheets/contents/cy7c68320_5.pdf
footprint A101_N (Thin QFP, 100-Leads, Body 20x14mm, Pitch 0.65mm, IPC Medium Density)
footprint A101_L (Thin QFP, 100-Leads, Body 20x14mm, Pitch 0.65mm, IPC High Density)
footprint A101_M (Thin QFP, 100-Leads, Body 20x14mm, Pitch 0.65mm, IPC Low Density)
pins: 1 VCC (power), 2 GND (power), 3 IORDY (in), 4 DMARQ (in), 5 GND (power), 6 GND (power), 7 GND (power), 8 GND (power), 9 AVCC (power), 10 XTALOUT (out), 11 XTALIN (in), 12 AGND (power), 13 NC, 14 NC, 15 NC, 16 VCC (power), 17 DPLUS (io), 18 DMINUS (io), 19 GND (power), 20 VCC (power), 21 GND (power), 22 SYSIRQ (in), 23 GND (power), 24 GND (power), 25 GND (power), 26 ~{PWR500}* (io) "(PU10K)", 27 GND (power) "(RESERVED)", 28 NC, 29 SCL (out), 30 SDA (io), 31 NC, 32 NC, 33 VCC (power), 34 DD0 (io), 35 DD1 (io), 36 DD2 (io), 37 DD3 (io), 38 VCC (power), 39 GND (power), 40 NC, 41 GND (power), 42 NC, 43 GND (power), 44 DD4 (io), 45 DD5 (io), 46 DD6 (io), 47 DD7 (io), 48 GND (power), 49 VCC (power), 50 GND (power), 51 NC, 52 NC, 53 VCC (power), 54 ~{DIOW} (out), 55 ~{DIOR} (out), 56 ~{DMACK} (out), 57 NC, 58 ~{LOWPWR} (out), 59 NC, 60 NC, 61 NC, 62 VBUSPWRD (in), 63 NC, 64 NC, 65 GND (power), 66 VCC (power), 67 INTRQ (in), 68 DA0 (out), 69 DA1 (out), 70 DRVPWRVLD* (in) "(DA2)", 71 ~{CS0} (out), 72 ~{CS1} (out), 73 DA2* (out) "(VBUS_PWR_VALID)", 74 ~{ARESET} (out), 75 GND (power), 76 NC, 77 ~{RESET} (in), 78 VCC (power), 79 VBUS_ATA_ENABLE* (in) "(ATA_EN)", 80 DD8 (io), 81 DD9 (io), 82 DD10 (io), 83 DD11 (io), 84 GND (power), 85 VCC (power), 86 NC, 87 NC, 88 GPIO0 (io), 89 GPIO1 (io), 90 GPIO2_nHS (io), 91 GPIO3 (io), 92 GPIO4 (io), 93 GPIO5 (io), 94 GND (power), 95 DD12 (io), 96 DD13 (io), 97 DD14 (io), 98 DD15 (io), 99 GND (power), 100 ATAPUEN* (io) "(NC)"

## CY7C68321-56LFXC
designator U?
EZ-USB AT2LP USB2.0 to ATA/ATAPI Bridge for Battery Powered Designs, 56-Pin QFN, Pb-Free; Published: 16-Dec-2005; LatestRevisionDate: 13-Apr-2006; LatestRevisionNote: IPC-7351 Footprint Added.; DatasheetVersion: rev.D, Feb-2005; PackageVersion: May-2003; PackageReference: LF56A; Publisher: Altium Limited; PackageDescription: 56-Pin Punch Version Quad Flat No-Lead 0.5 mm Pitch; Code_JEDEC: MO-220; ComponentLink1Description: Manufacturer Link; ComponentLink1URL: http://www.cypress.com/portal/server.pt; ComponentLink2Description: Datasheet; ComponentLink2URL: http://www.cypress.com/portal/server.pt/gateway/PTARGS_0_2_1524_209_259_43/http%3B/sjapp20.mis.cypress.com%3B7001/publishedcontent/publish/design_resources/datasheets/contents/cy7c68321_5.pdf
footprint LF56A_N (QFN, 56-Leads, Body 8x8mm, Pitch 0.5mm, IPC Medium Density)
footprint LF56A_L (QFN, 56-Leads, Body 8x8mm, Pitch 0.5mm, IPC High Density)
footprint LF56A_M (QFN, 56-Leads, Body 8x8mm, Pitch 0.5mm, IPC Low Density)
pins: 1 IORDY (in), 2 DMARQ (in), 3 AVCC (power), 4 XTALOUT (out), 5 XTALIN (in), 6 AGND (power), 7 VCC (power), 8 DPLUS (io), 9 DMINUS (io), 10 GND (power), 11 VCC (power), 12 GND (power), 13 GPIO1 (io), 14 GND (power), 15 SCL (out), 16 SDA (io), 17 VCC (power), 18 DD0 (io), 19 DD1 (io), 20 DD2 (io), 21 DD3 (io), 22 DD4 (io), 23 DD5 (io), 24 DD6 (io), 25 DD7 (io), 26 GND (power), 27 VCC (power), 28 GND (power), 29 ~{DIOW} (out), 30 ~{DIOR} (out), 31 ~{DMACK} (out), 32 VCC (power), 33 INTRQ (in), 34 DA0 (out), 35 DA1 (out), 36 GPIO0 (io), 37 ~{CS0} (out), 38 ~{CS1} (out), 39 DA2 (out), 40 ~{ARESET} (out), 41 GND (power), 42 ~{RESET} (in), 43 VCC (power), 44 VBUS_ATA_ENABLE (in), 45 DD8 (io), 46 DD9 (io), 47 DD10 (io), 48 DD11 (io), 49 DD12 (io), 50 DD13 (power), 51 DD14 (io), 52 DD15 (io), 53 GND (power), 54 GPIO2_nHS (io), 55 VCC (power), 56 GND (power), 57 Thermal Pad (power)

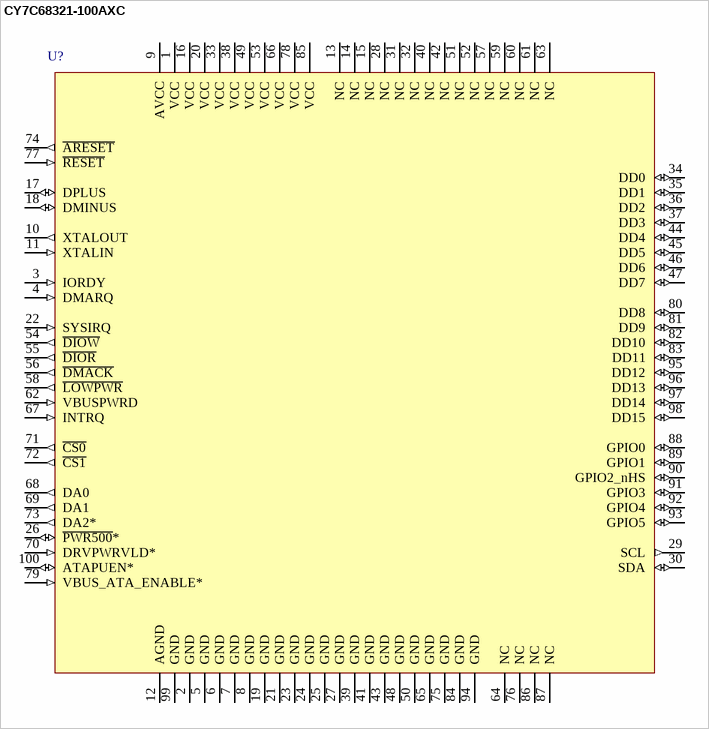
[diagram p6: symbol CY7C68321-100AXC]

## CY7C68321-100AXC
designator U?
EZ-USB AT2LP USB2.0 to ATA/ATAPI Bridge for Battery Powered Designs, 100-Pin TQFP, Pb-Free; Published: 16-Dec-2005; LatestRevisionDate: 13-Apr-2006; LatestRevisionNote: IPC-7351 Footprint Added.; DatasheetVersion: rev.D, Feb-2005; PackageVersion: Feb-2005; PackageReference: A101; Publisher: Altium Limited; PackageDescription: 100-Pin Thin Plastic Quad Flat Pack Rectangular 0.65 mm Pitch; ComponentLink1Description: Manufacturer Link; ComponentLink1URL: http://www.cypress.com/portal/server.pt; ComponentLink2Description: Datasheet; ComponentLink2URL: http://www.cypress.com/portal/server.pt/gateway/PTARGS_0_2_1524_209_259_43/http%3B/sjapp20.mis.cypress.com%3B7001/publishedcontent/publish/design_resources/datasheets/contents/cy7c68321_5.pdf
footprint A101_N (Thin QFP, 100-Leads, Body 20x14mm, Pitch 0.65mm, IPC Medium Density)
footprint A101_L (Thin QFP, 100-Leads, Body 20x14mm, Pitch 0.65mm, IPC High Density)
footprint A101_M (Thin QFP, 100-Leads, Body 20x14mm, Pitch 0.65mm, IPC Low Density)
pins: 1 VCC (power), 2 GND (power), 3 IORDY (in), 4 DMARQ (in), 5 GND (power), 6 GND (power), 7 GND (power), 8 GND (power), 9 AVCC (power), 10 XTALOUT (out), 11 XTALIN (in), 12 AGND (power), 13 NC, 14 NC, 15 NC, 16 VCC (power), 17 DPLUS (io), 18 DMINUS (io), 19 GND (power), 20 VCC (power), 21 GND (power), 22 SYSIRQ (in), 23 GND (power), 24 GND (power), 25 GND (power), 26 ~{PWR500}* (io) "(PU10K)", 27 GND (power) "(RESERVED)", 28 NC, 29 SCL (out), 30 SDA (io), 31 NC, 32 NC, 33 VCC (power), 34 DD0 (io), 35 DD1 (io), 36 DD2 (io), 37 DD3 (io), 38 VCC (power), 39 GND (power), 40 NC, 41 GND (power), 42 NC, 43 GND (power), 44 DD4 (io), 45 DD5 (io), 46 DD6 (io), 47 DD7 (io), 48 GND (power), 49 VCC (power), 50 GND (power), 51 NC, 52 NC, 53 VCC (power), 54 ~{DIOW} (out), 55 ~{DIOR} (out), 56 ~{DMACK} (out), 57 NC, 58 ~{LOWPWR} (out), 59 NC, 60 NC, 61 NC, 62 VBUSPWRD (in), 63 NC, 64 NC, 65 GND (power), 66 VCC (power), 67 INTRQ (in), 68 DA0 (out), 69 DA1 (out), 70 DRVPWRVLD* (in) "(DA2)", 71 ~{CS0} (out), 72 ~{CS1} (out), 73 DA2* (out) "(VBUS_PWR_VALID)", 74 ~{ARESET} (out), 75 GND (power), 76 NC, 77 ~{RESET} (in), 78 VCC (power), 79 VBUS_ATA_ENABLE* (in) "(ATA_EN)", 80 DD8 (io), 81 DD9 (io), 82 DD10 (io), 83 DD11 (io), 84 GND (power), 85 VCC (power), 86 NC, 87 NC, 88 GPIO0 (io), 89 GPIO1 (io), 90 GPIO2_nHS (io), 91 GPIO3 (io), 92 GPIO4 (io), 93 GPIO5 (io), 94 GND (power), 95 DD12 (io), 96 DD13 (io), 97 DD14 (io), 98 DD15 (io), 99 GND (power), 100 ATAPUEN* (io) "(NC)"